# Altium footprint library Footprint.PcbLib: 33 footprints (part 1 of 3)
Each footprint in its own frame and in the unit in brackets; x right, y up, seen from the top. Pads: shape width x height; smd on the part's side, far side on the other; paste and mask are expansions set on the pad; w line width, h text height; cw(c..) or ccw(c..) is an arc to the next point about the centre after c.
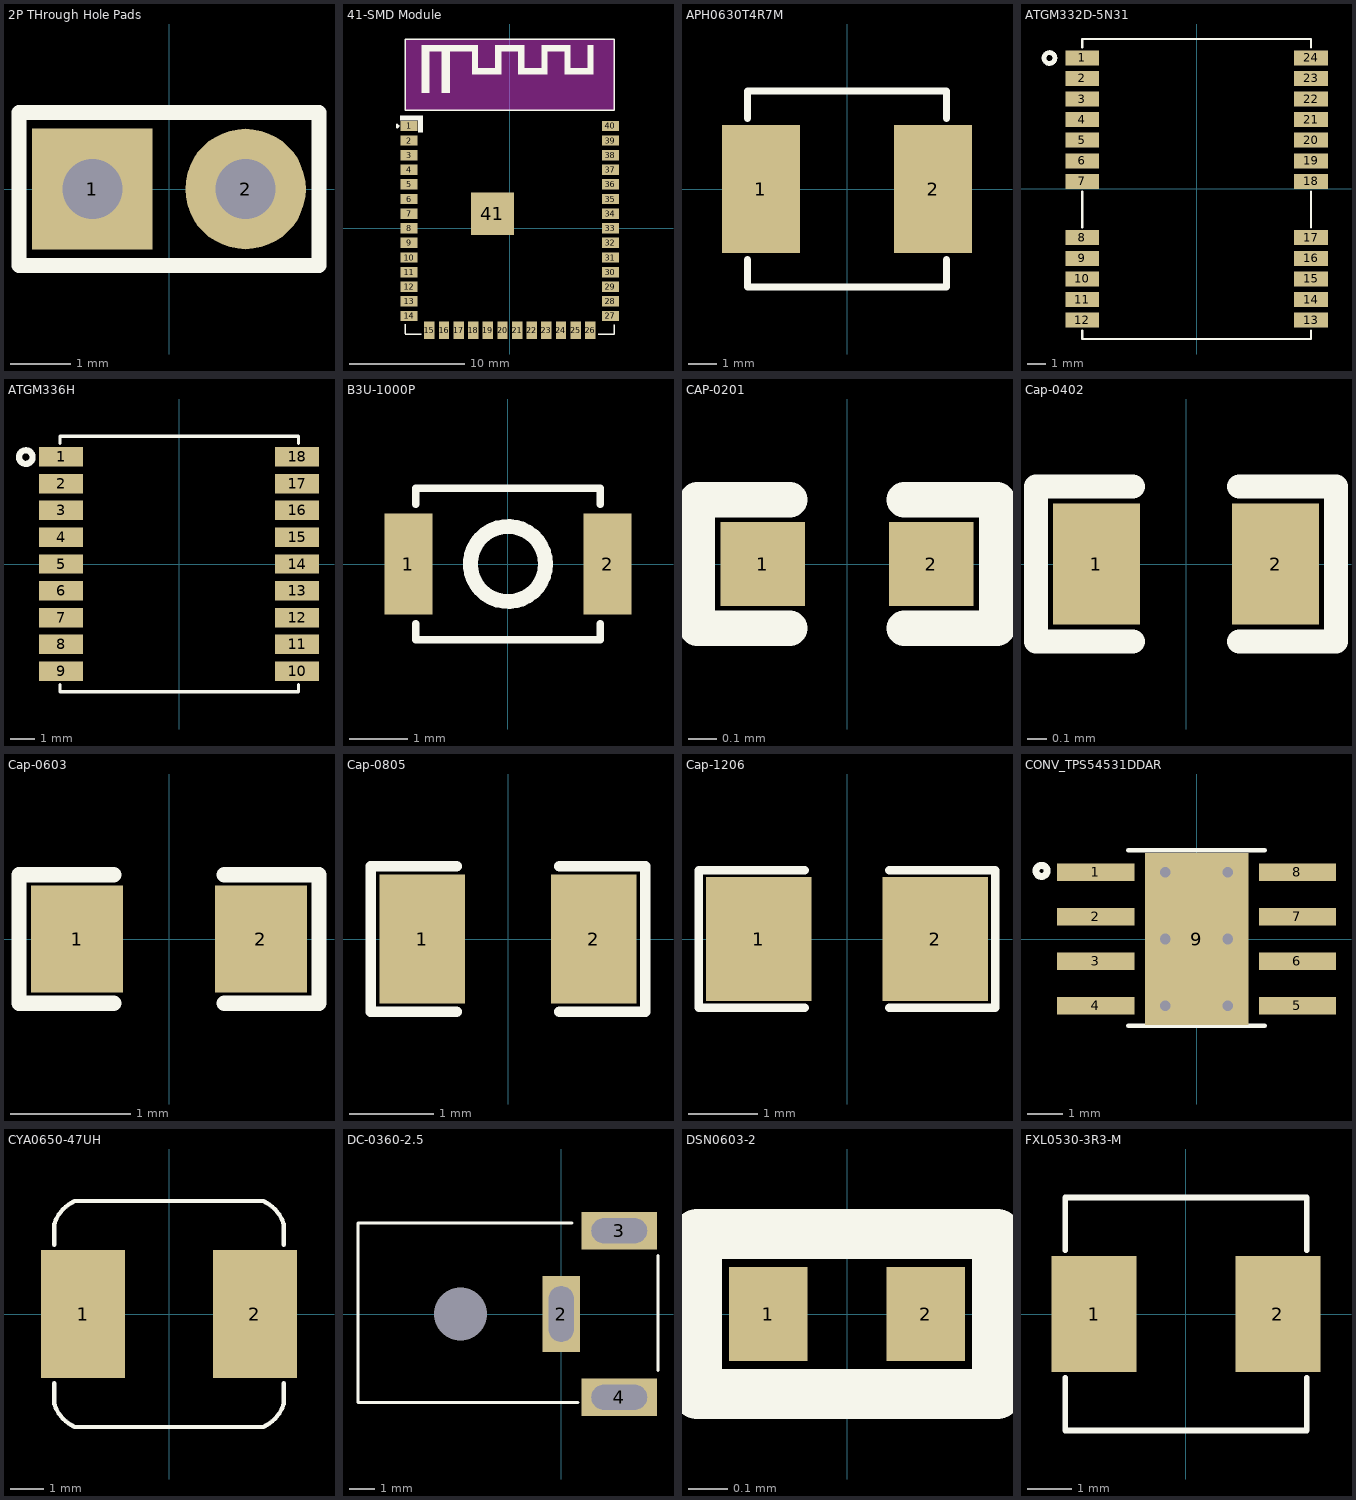
[diagram p0: the footprints below, top view; thin cyan lines are the x and y axes]

## 2P THrough Hole Pads [mm]
pads (2):
  rect 2x2 hole 1: 1(-1.27,0)
  round 2 hole 1: 2(1.27,0)
Top Overlay:
  lines w0.254: -2.489,-1.27 -2.489,1.27 2.489,1.27 2.489,-1.27 -2.489,-1.27

## 41-SMD Module [mm]
pads (41):
  rect 1.5x0.9 smd: 1(-8.75,8.88) 2(-8.75,7.61) 3(-8.75,6.34) 4(-8.75,5.07) 5(-8.75,3.8) 6(-8.75,2.53) 7(-8.75,1.26) 8(-8.75,-0.01) 9(-8.75,-1.28) 10(-8.75,-2.55) 11(-8.75,-3.82) 12(-8.75,-5.09) 13(-8.75,-6.36) 14(-8.75,-7.63) 27(8.75,-7.63) 28(8.75,-6.36) 29(8.75,-5.09) 30(8.75,-3.82) 31(8.75,-2.55) 32(8.75,-1.28) 33(8.75,-0.01) 34(8.75,1.26) 35(8.75,2.53) 36(8.75,3.8) 37(8.75,5.07) 38(8.75,6.34) 39(8.75,7.61) 40(8.75,8.88)
  rect 0.9x1.5 smd: 15(-6.98,-8.88) 16(-5.71,-8.88) 17(-4.44,-8.88) 18(-3.17,-8.88) 19(-1.9,-8.88) 20(-0.63,-8.88) 21(0.64,-8.88) 22(1.91,-8.88) 23(3.18,-8.88) 24(4.45,-8.88) 25(5.72,-8.88) 26(6.99,-8.88)
  rect 3.7x3.7 smd: 41(-1.5,1.26)
Top Overlay:
  rectangle: -7.671,11.735 -6.96,15.9
  rectangle: -7.671,15.367 -5.207,15.9
  region: -5.207,15.9 -5.918,15.9 -5.918,11.735 -5.207,11.735
  rectangle: -5.283,15.367 -2.743,15.9
  region: -2.743,13.36 -2.743,15.9 -3.277,15.9 -3.277,13.36
  rectangle: -3.277,13.36 -0.737,13.894
  region: -0.737,13.36 -0.737,15.9 -1.27,15.9 -1.27,13.36
  rectangle: -1.27,15.367 1.27,15.9
  region: 0.737,15.9 0.737,13.36 1.27,13.36 1.27,15.9
  rectangle: 0.737,13.36 3.277,13.894
  region: 3.277,13.36 3.277,15.9 2.743,15.9 2.743,13.36
  rectangle: 2.743,15.367 5.283,15.9
  region: 5.283,13.36 5.283,15.9 4.75,15.9 4.75,13.36
  rectangle: 4.75,13.36 7.29,13.894
  region: 7.29,13.36 7.29,15.9 6.756,15.9 6.756,13.36
  rectangle: -7.959,8.328 -7.541,9.406
  rectangle: -9.521,9.362 -7.541,9.802
  lines w0.127: -9.064,-9.197 -7.669,-9.197 ; -9.064,-9.171 -9.064,-8.359 ; 7.677,-9.197 9.072,-9.197 9.072,-8.384 ; 9.086,10.244 -9.096,10.244 -9.096,16.434 9.091,16.434 9.091,10.244
  lines w0.2: -9.804,8.738 -9.677,8.865 -9.804,8.992 -9.804,8.738
Keep-Out Layer:
  rectangle: -9.042,10.287 9.042,16.383
3D body "ESP32-S3-WROOM.step": height 3.16, standoff 0, extent -9.01,-9.144 9.01,16.366

## APH0630T4R7M [mm]
pads (2):
  rect 2.75x4.5 smd: 1(-3.025,0) 2(3.025,0)
Top Overlay:
  lines w0.254: -3.5,-2.489 -3.5,-3.45 3.5,-3.45 3.5,-2.489 ; -3.5,2.489 -3.5,3.45 3.5,3.45 3.5,2.489
3D body: height 3, standoff 0, extent -3.481,-3.454 3.505,3.454
3D body: height 0.5, standoff 0, extent 1.849,-1.486 3.551,1.486
3D body: height 0.5, standoff 0, extent -3.539,-1.486 -1.837,1.486

## ATGM332D-5N31 [mm]
pads (24):
  rect 1.8x0.8 smd: 1(-6.1,7) 2(-6.1,5.9) 3(-6.1,4.8) 4(-6.1,3.7) 5(-6.1,2.6) 6(-6.1,1.5) 7(-6.1,0.4) 8(-6.1,-2.6) 9(-6.1,-3.7) 10(-6.1,-4.8) 11(-6.1,-5.9) 12(-6.1,-7) 13(6.1,-7) 14(6.1,-5.9) 15(6.1,-4.8) 16(6.1,-3.7) 17(6.1,-2.6) 18(6.1,0.4) 19(6.1,1.5) 20(6.1,2.6) 21(6.1,3.7) 22(6.1,4.8) 23(6.1,5.9) 24(6.1,7)
Top Overlay:
  circle w0.254: c-7.849,6.985 r0.29
  lines w0.127: -6.1,-7.544 -6.1,-8 6.1,-8 6.1,-7.544 ; -6.1,-0.152 -6.096,-2.032 ; -6.1,7.544 -6.1,8 6.1,8 6.1,7.544 ; 6.096,-2.032 6.1,-0.152

## ATGM336H [mm]
pads (18):
  rect 1.8x0.8 smd paste+0 mask+0.051: 1(-4.85,4.4) 2(-4.85,3.3) 3(-4.85,2.2) 4(-4.85,1.1) 5(-4.85,0) 6(-4.85,-1.1) 7(-4.85,-2.2) 8(-4.85,-3.3) 9(-4.85,-4.4) 10(4.85,-4.4) 11(4.85,-3.3) 12(4.85,-2.2) 13(4.85,-1.1) 14(4.85,0) 15(4.85,1.1) 16(4.85,2.2) 17(4.85,3.3) 18(4.85,4.4)
Top Overlay:
  circle w0.25: c-6.299,4.394 r0.279
  lines w0.127: -4.9,-4.947 -4.9,-5.25 4.9,-5.25 4.9,-4.947 ; -4.9,4.947 -4.9,5.25 4.9,5.25 4.9,4.947

## B3U-1000P [mm] "SWITCH TACTILE SPST-NO 0.05A 12V"
pads (2):
  rect 0.82x1.72 smd: 1(-1.7,0) 2(1.7,0)
Top Overlay:
  circle w0.254: c0,0 r0.641
  lines w0.127: -1.575,-1.016 -1.575,-1.295 1.575,-1.295 1.575,-1.016 ; -1.575,1.016 -1.575,1.295 1.575,1.295 1.575,1.016
3D body "User Library-OMRON B3U1000P.step": height 1.6, standoff 0, extent -2,-1.263 2,1.237

## CAP-0201 [mm]
pads (2):
  rect 0.3x0.3 smd mask+0.055: 1(-0.3,0) 2(0.3,0)
Top Overlay:
  lines w0.127: -0.203,-0.229 -0.533,-0.229 -0.533,0.229 -0.203,0.229 ; 0.203,-0.229 0.533,-0.229 0.533,0.229 0.203,0.229
3D body "User Library-SMD Ceramic Capacitors_0201 (0603)_AB.STEP": height 0.28, standoff -0.02, extent -0.3,-0.15 0.301,0.15

## Cap-0402 [mil]
pads (2):
  rect 18x25 smd mask+2.36: 1(-18.5,0) 2(18.5,0)
Top Overlay:
  lines w5: -11,-16 -31,-16 -31,16 -11,16 ; 11,-16 31,-16 31,16 11,16
3D body "User Library-Capacitor 0402.step": height 18.5, standoff -1.18, extent -19.68,-9.84 19.7,9.85

## Cap-0603 [mil]
pads (2):
  rect 30x35 smd mask+2.36: 1(-30,0) 2(30,0)
Top Overlay:
  lines w5: -18,-21 -49,-21 -49,21 -18,21 ; 18,-21 49,-21 49,21 18,21
3D body "User Library-CAPC1608X09.step": height 34.25, standoff -1.18, extent -31.51,-15.75 31.49,15.74

## Cap-0805 [mil] "SMD 0805"
pads (2):
  rect 40x60 smd mask+2.76: 1(-40,0) 2(40,0)
Top Overlay:
  lines w5: -24,-34 -64,-34 -64,34 -24,34 ; 24,-34 64,-34 64,34 24,34
3D body "User Library-0805 SMD Capacitor.step": height 30, standoff -0.79, extent -39.36,-24.6 39.38,24.61

## Cap-1206 [mil] "SMD 1206"
pads (2):
  rect 60x70 smd: 1(-50,0) 2(50,0)
Top Overlay:
  lines w5: -24,-39 -84,-39 -84,39 -24,39 ; 24,-39 84,-39 84,39 24,39
3D body "User Library-1206 SMD Capacitor.step": height 39.45, standoff 0, extent -62.96,-31.46 63.03,31.53

## CONV_TPS54531DDAR [mm]
pads (9):
  rect 2.2x0.5 smd paste-2: 1(-2.875,1.905) 2(-2.875,0.635) 3(-2.875,-0.635) 4(-2.875,-1.905) 5(2.875,-1.905) 6(2.875,-0.635) 7(2.875,0.635) 8(2.875,1.905)
  rect 2.95x4.9 smd paste-3 mask+0: 9(0,0)
via -0.889,0 diameter 0.6 hole 0.3
via 0.889,0 diameter 0.6 hole 0.3
via 0.889,1.905 diameter 0.6 hole 0.3
via -0.889,-1.905 diameter 0.6 hole 0.3
via 0.889,-1.905 diameter 0.6 hole 0.3
via -0.889,1.905 diameter 0.6 hole 0.3
Top Overlay:
  circle w0.2: c-4.418,1.943 r0.158
  lines w0.127: -1.95,-2.475 1.95,-2.475 ; -1.95,2.525 1.95,2.525
Top Paste:
  region: 3.95,-2.13 1.8,-2.13 1.8,-1.68 3.95,-1.68
  region: 3.95,-0.86 1.8,-0.86 1.8,-0.41 3.95,-0.41
  region: 3.95,0.41 1.8,0.41 1.8,0.86 3.95,0.86
  region: 3.95,1.68 1.8,1.68 1.8,2.13 3.95,2.13
  region: -1.8,-2.13 -3.95,-2.13 -3.95,-1.68 -1.8,-1.68
  region: -1.8,-0.86 -3.95,-0.86 -3.95,-0.41 -1.8,-0.41
  region: -1.8,0.41 -3.95,0.41 -3.95,0.86 -1.8,0.86
  region: -1.8,1.68 -3.95,1.68 -3.95,2.13 -1.8,2.13
  region: 1.2,-1.55 -1.2,-1.55 -1.2,1.55 1.2,1.55
Top Solder:
  region: 1.2,-1.55 -1.2,-1.55 -1.2,1.55 1.2,1.55
3D body "step_temp.STEP": height 1.7, standoff 0, extent -3,-2.45 3,2.45

## CYA0650-47UH [mm]
pads (2):
  rect 2.5x3.8 smd mask+0.055: 1(-2.55,0) 2(2.55,0)
Top Overlay:
  lines w0.127: -3.404,-2.057 -3.404,-2.667 ccw(c-2.342,-2.338) -2.794,-3.353 2.794,-3.353 ccw(c2.342,-2.338) 3.404,-2.667 3.404,-2.057 ; -3.404,2.057 -3.404,2.667 cw(c-2.342,2.338) -2.794,3.353 2.794,3.353 cw(c2.342,2.338) 3.404,2.667 3.404,2.057
3D body "SHOU HAN CYA0650-47UH.STEP": height 5, standoff 0, extent -3.6,-3.3 3.6,3.3

## DC-0360-2.5 [mm]
pads (4):
  rect 1.5x3 hole 1 slot 2.2 at 90 deg mask+0.05: 2(0,0)
  rect 3x1.5 hole 1 slot 2.2 at 0 deg mask+0.05: 3(2.3,3.3) 4(2.3,-3.3)
  round 0 hole 2.1 unplated mask+0.05: MH(-4,0)
Top Overlay:
  lines w0.127: 0.432,3.607 -8.052,3.607 -8.052,-3.505 0.66,-3.505 ; 3.835,-2.235 3.835,2.311
3D body "DC-0360-2.5.STEP": height 9.65, standoff -2.49, extent -8.013,-3.454 3.787,3.556

## DSN0603-2 [mm]
pads (2):
  rect 0.2x0.24 smd mask+0.055: 1(-0.2,0) 2(0.2,0)
Top Overlay:
  lines w0.127: -0.381,-0.203 -0.381,0.203 0.381,0.203 0.381,-0.203 -0.381,-0.203
3D body "PESD5V0H1BSF.STEP": height 0.32, standoff 0, extent -0.3,-0.15 0.3,0.15

## FXL0530-3R3-M [mm]
pads (2):
  rect 1.9x2.6 smd: 1(-2.05,0) 2(2.05,0)
Top Overlay:
  lines w0.127: -2.7,-1.422 -2.7,-2.6 2.7,-2.6 2.7,-1.422 ; -2.7,1.422 -2.7,2.6 2.7,2.6 2.7,1.422
3D body: height 3, standoff 0, extent -2.692,-2.591 2.692,2.591
3D body: height 0.5, standoff 0, extent 1.65,-1.1 2.85,1.1
3D body: height 0.5, standoff 0, extent -2.85,-1.1 -1.65,1.1